# EAGLE library part STM32F407VGT6-100 (library STM32F4)
Stm32F407VGT6 microcontroler with LQFP100 footprint (100 pins)
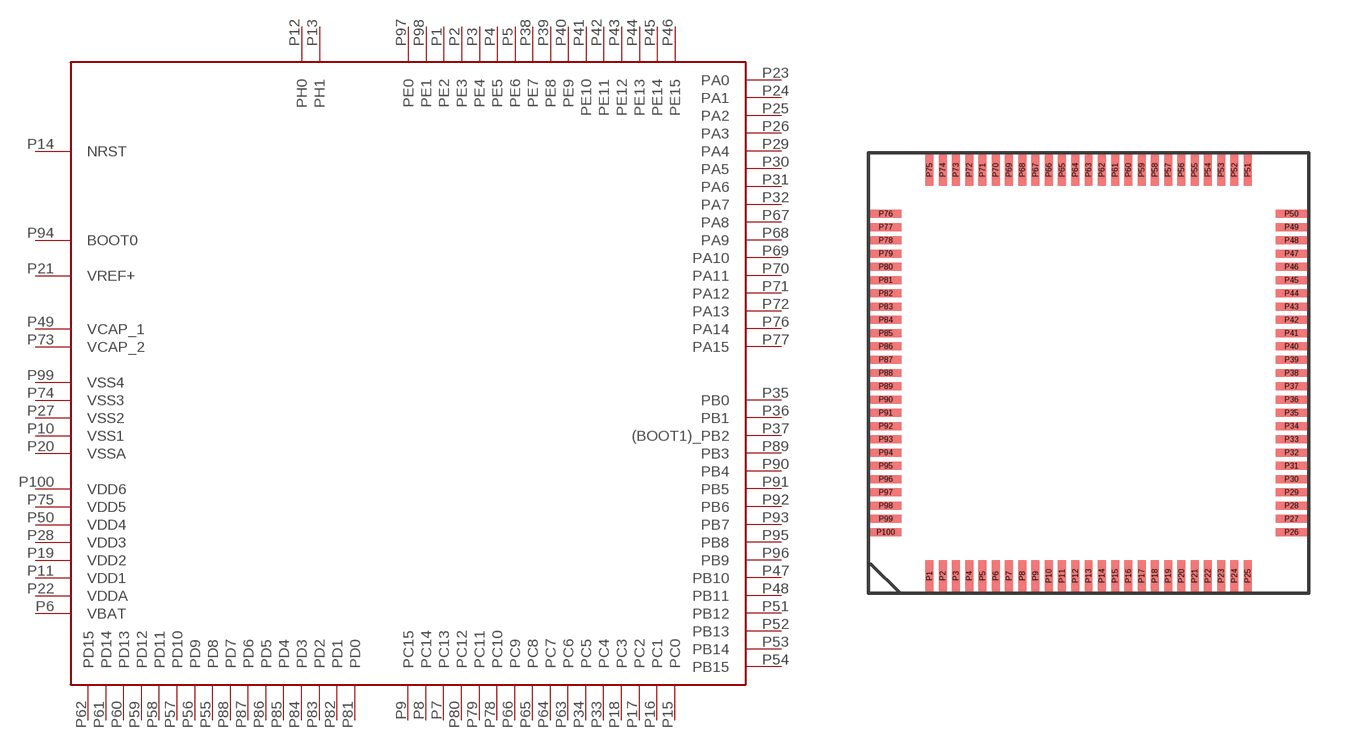
[diagram p0: symbol with the pads of STM32F407VGT6-100; footprint STM32F407VGT6-100]

Designator prefix -

## STM32F407VGT6-100  [STM32F407VGT6-100]
P1  PE2
P2  PE3
P3  PE4
P4  PE5
P5  PE6
P6  VBAT
P7  PC13
P8  PC14
P9  PC15
P10  VSS1
P11  VDD1
P12  PH0
P13  PH1
P14  NRST
P15  PC0
P16  PC1
P17  PC2
P18  PC3
P19  VDD2
P20  VSSA
P21  VREF+
P22  VDDA
P23  PA0
P24  PA1
P25  PA2
P26  PA3
P27  VSS2
P28  VDD3
P29  PA4
P30  PA5
P31  PA6
P32  PA7
P33  PC4
P34  PC5
P35  PB0
P36  PB1
P37  (BOOT1)_PB2
P38  PE7
P39  PE8
P40  PE9
P41  PE10
P42  PE11
P43  PE12
P44  PE13
P45  PE14
P46  PE15
P47  PB10
P48  PB11
P49  VCAP_1
P50  VDD4
P51  PB12
P52  PB13
P53  PB14
P54  PB15
P55  PD8
P56  PD9
P57  PD10
P58  PD11
P59  PD12
P60  PD13
P61  PD14
P62  PD15
P63  PC6
P64  PC7
P65  PC8
P66  PC9
P67  PA8
P68  PA9
P69  PA10
P70  PA11
P71  PA12
P72  PA13
P73  VCAP_2
P74  VSS3
P75  VDD5
P76  PA14
P77  PA15
P78  PC10
P79  PC11
P80  PC12
P81  PD0
P82  PD1
P83  PD2
P84  PD3
P85  PD4
P86  PD5
P87  PD6
P88  PD7
P89  PB3
P90  PB4
P91  PB5
P92  PB6
P93  PB7
P94  BOOT0
P95  PB8
P96  PB9
P97  PE0
P98  PE1
P99  VSS4
P100  VDD6

## Footprint STM32F407VGT6-100 (pad centres in mm)
smd 0.3 x 1.2: P1 -6,-7.65; P2 -5.5,-7.65; P3 -5,-7.65; P4 -4.5,-7.65; P5 -4,-7.65; P6 -3.5,-7.65; P7 -3,-7.65; P8 -2.5,-7.65; P9 -2,-7.65; P10 -1.5,-7.65; P11 -1,-7.65; P12 -0.5,-7.65; P13 0,-7.65; P14 0.5,-7.65; P15 1,-7.65; P16 1.5,-7.65; P17 2,-7.65; P18 2.5,-7.65; P19 3,-7.65; P20 3.5,-7.65; P21 4,-7.65; P22 4.5,-7.65; P23 5,-7.65; P24 5.5,-7.65; P25 6,-7.65; P51 6,7.65; P52 5.5,7.65; P53 5,7.65; P54 4.5,7.65; P55 4,7.65; P56 3.5,7.65; P57 3,7.65; P58 2.5,7.65; P59 2,7.65; P60 1.5,7.65; P61 1,7.65; P62 0.5,7.65; P63 0,7.65; P64 -0.5,7.65; P65 -1,7.65; P66 -1.5,7.65; P67 -2,7.65; P68 -2.5,7.65; P69 -3,7.65; P70 -3.5,7.65; P71 -4,7.65; P72 -4.5,7.65; P73 -5,7.65; P74 -5.5,7.65; P75 -6,7.65
smd 1.2 x 0.3: P26 7.65,-6; P27 7.65,-5.5; P28 7.65,-5; P29 7.65,-4.5; P30 7.65,-4; P31 7.65,-3.5; P32 7.65,-3; P33 7.65,-2.5; P34 7.65,-2; P35 7.65,-1.5; P36 7.65,-1; P37 7.65,-0.5; P38 7.65,0; P39 7.65,0.5; P40 7.65,1; P41 7.65,1.5; P42 7.65,2; P43 7.65,2.5; P44 7.65,3; P45 7.65,3.5; P46 7.65,4; P47 7.65,4.5; P48 7.65,5; P49 7.65,5.5; P50 7.65,6; P76 -7.65,6; P77 -7.65,5.5; P78 -7.65,5; P79 -7.65,4.5; P80 -7.65,4; P81 -7.65,3.5; P82 -7.65,3; P83 -7.65,2.5; P84 -7.65,2; P85 -7.65,1.5; P86 -7.65,1; P87 -7.65,0.5; P88 -7.65,0; P89 -7.65,-0.5; P90 -7.65,-1; P91 -7.65,-1.5; P92 -7.65,-2; P93 -7.65,-2.5; P94 -7.65,-3; P95 -7.65,-3.5; P96 -7.65,-4; P97 -7.65,-4.5; P98 -7.65,-5; P99 -7.65,-5.5; P100 -7.65,-6